# Altium footprint library CO400_0037-0.PcbLib: 1 footprints
Each footprint in its own frame and in the unit in brackets; x right, y up, seen from the top. Pads: shape width x height; smd on the part's side, far side on the other; paste and mask are expansions set on the pad; w line width, h text height; cw(c..) or ccw(c..) is an arc to the next point about the centre after c.
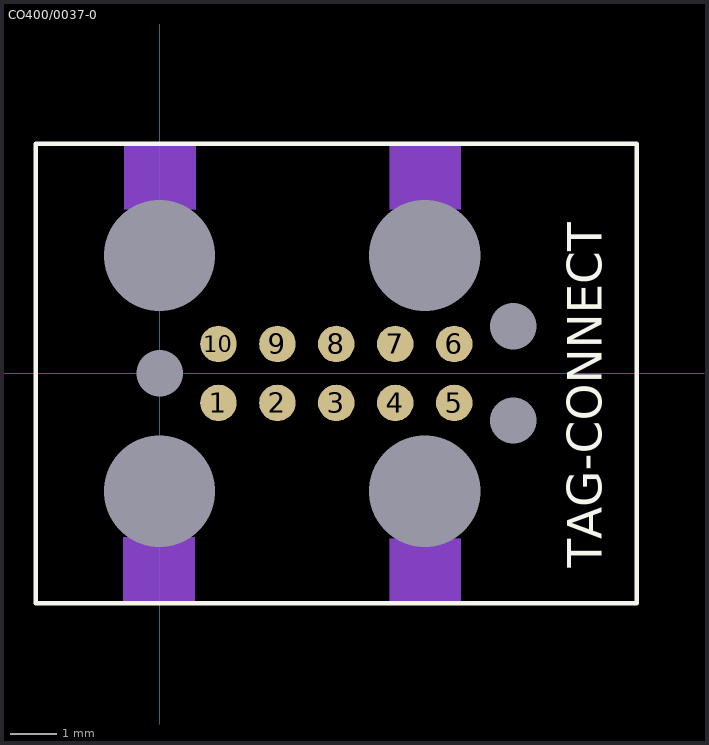
[diagram p0: the footprint, top view; thin cyan lines are the x and y axes]

## CO400/0037-0 [mil] "TAG-Connect TC2050-IDC-FP"
pads (17):
  round 0 hole 94.49 unplated: 0(0,-100) 0(0,100) 0(225,-100) 0(225,100)
  round 0 hole 39.37 unplated: 0(0,0) 0(300,-39.96) 0(300,39.96)
  round 31 smd paste-31.5 mask+3.94: 1(50,-25) 2(100,-25) 3(150,-25) 4(200,-25) 5(250,-25) 6(250,25) 7(200,25) 8(150,25) 9(100,25) 10(50,25)
Bottom Layer keep-out:
  rectangle: -30,139 31,195
  rectangle: 195,139 256,195
  rectangle: 195,-196 256,-140
  rectangle: -31,-195 30,-139
Top Overlay:
  lines w3.94: -105,-195 405,-195 405,195 -105,195 -105,-195
  text "TAG-CONNECT" at 385,-165 h50